# Altium schematic symbol library wzmacniacze.SchLib: 1 symbol
Pins are listed as number, name and electrical type; pins without a type are passive.

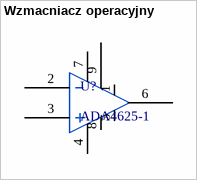
[diagram p0: symbol Wzmacniacz operacyjny]

## Wzmacniacz operacyjny
designator U?, comment ADA4625-1
Manufacterer: Analog Devices; Model name: ADA4625-1; Pin count: 8; Package: SO-8; Footprint type: SMD
footprint SOIC_N_EP
pins: 1, 2, 3, 4, 5, 6, 7, 8, 9